# Altium schematic symbol library SCH - POWER - SWITCHMODE - TI TPS61232DRC.SchLib: 1 symbol
Pins are listed as number, name and electrical type; pins without a type are passive.

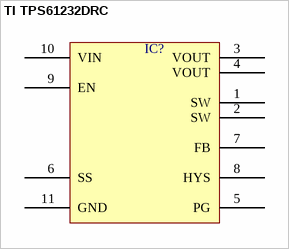
[diagram p0: symbol TI TPS61232DRC]

## TI TPS61232DRC
designator IC?  (value not drawn)
pins: 1 SW, 2 SW, 3 VOUT, 4 VOUT, 5 PG, 6 SS, 7 FB, 8 HYS, 9 EN, 10 VIN, 11 GND